# Altium footprint library Dumber.PcbLib: 3 footprints
Each footprint in its own frame and in the unit in brackets; x right, y up, seen from the top. Pads: shape width x height; smd on the part's side, far side on the other; paste and mask are expansions set on the pad; w line width, h text height; cw(c..) or ccw(c..) is an arc to the next point about the centre after c.
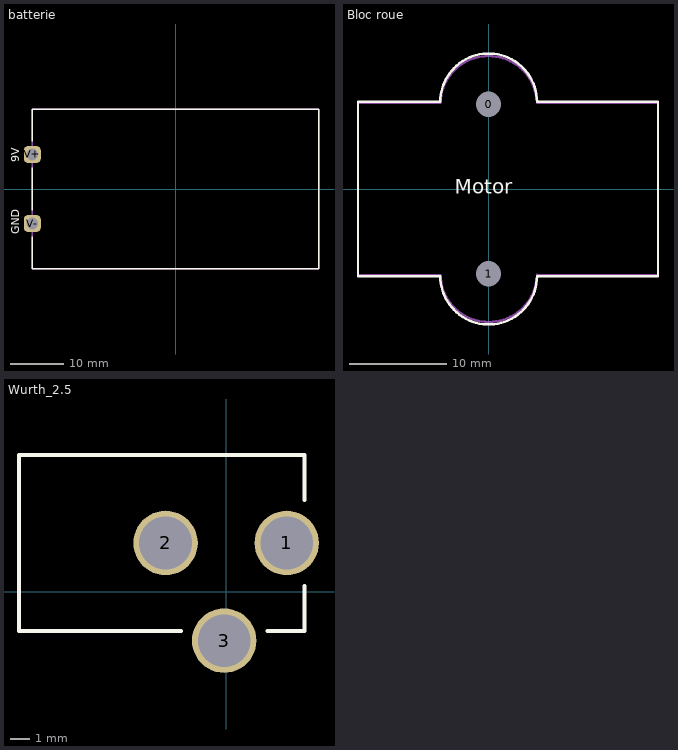
[diagram p0: the footprints below, top view; thin cyan lines are the x and y axes]

## batterie [mm]
pads (2):
  rrect50% 3.2x3.2 hole 2.2: V+(-27,6.5) V-(-27,-6.5)
Top Overlay:
  lines w0.254: -27,-9 -27,-15 27,-15 27,15 -27,15 -27,9 ; -27,-4 -27,4
  text "9V" at -29.5,5 h1.52
  text "GND" at -29.5,-8.5 h1.52
Mechanical 2:
  lines w0.254: -27,-15 -27,15 27,15 27,-15 -27,-15

## Bloc roue [mm]
pads (2):
  round 1.524 hole 2.6 unplated: 0(0,8.75) 1(0,-8.75)
Top Overlay:
  lines w0.254: -13.5,-9 -13.5,9 -5,9 cw(c0,9) 5,9 17.5,9 17.5,-9 5,-9 cw(c0,-9) -5,-9 -13.5,-9
  text "Motor" at -3.5,-0.5 h1.52
Mechanical 2:
  lines w0.254: -4.998,-8.903 ccw(c0,-8.75) 4.999,-8.872 ; -4.998,-8.89 -13.5,-8.89 -13.5,8.89 -4.997,8.89 ; -4.997,8.922 cw(c0,8.75) 4.998,8.903 ; 4.998,8.89 17.5,8.89 17.5,-8.89 4.999,-8.89

## Wurth_2.5 [mm]
pads (3):
  round 3.3 hole 2.7: 1(3.1,2.5) 2(-3.1,2.5) 3(-0.1,-2.5)
Top Overlay:
  lines w0.2: -2.3,-2 -10.6,-2 -10.6,7 4,7 4,4.7 ; 2.1,-2 4,-2 4,0.3